# EAGLE library part XC3S50 (library STM32-PROX)
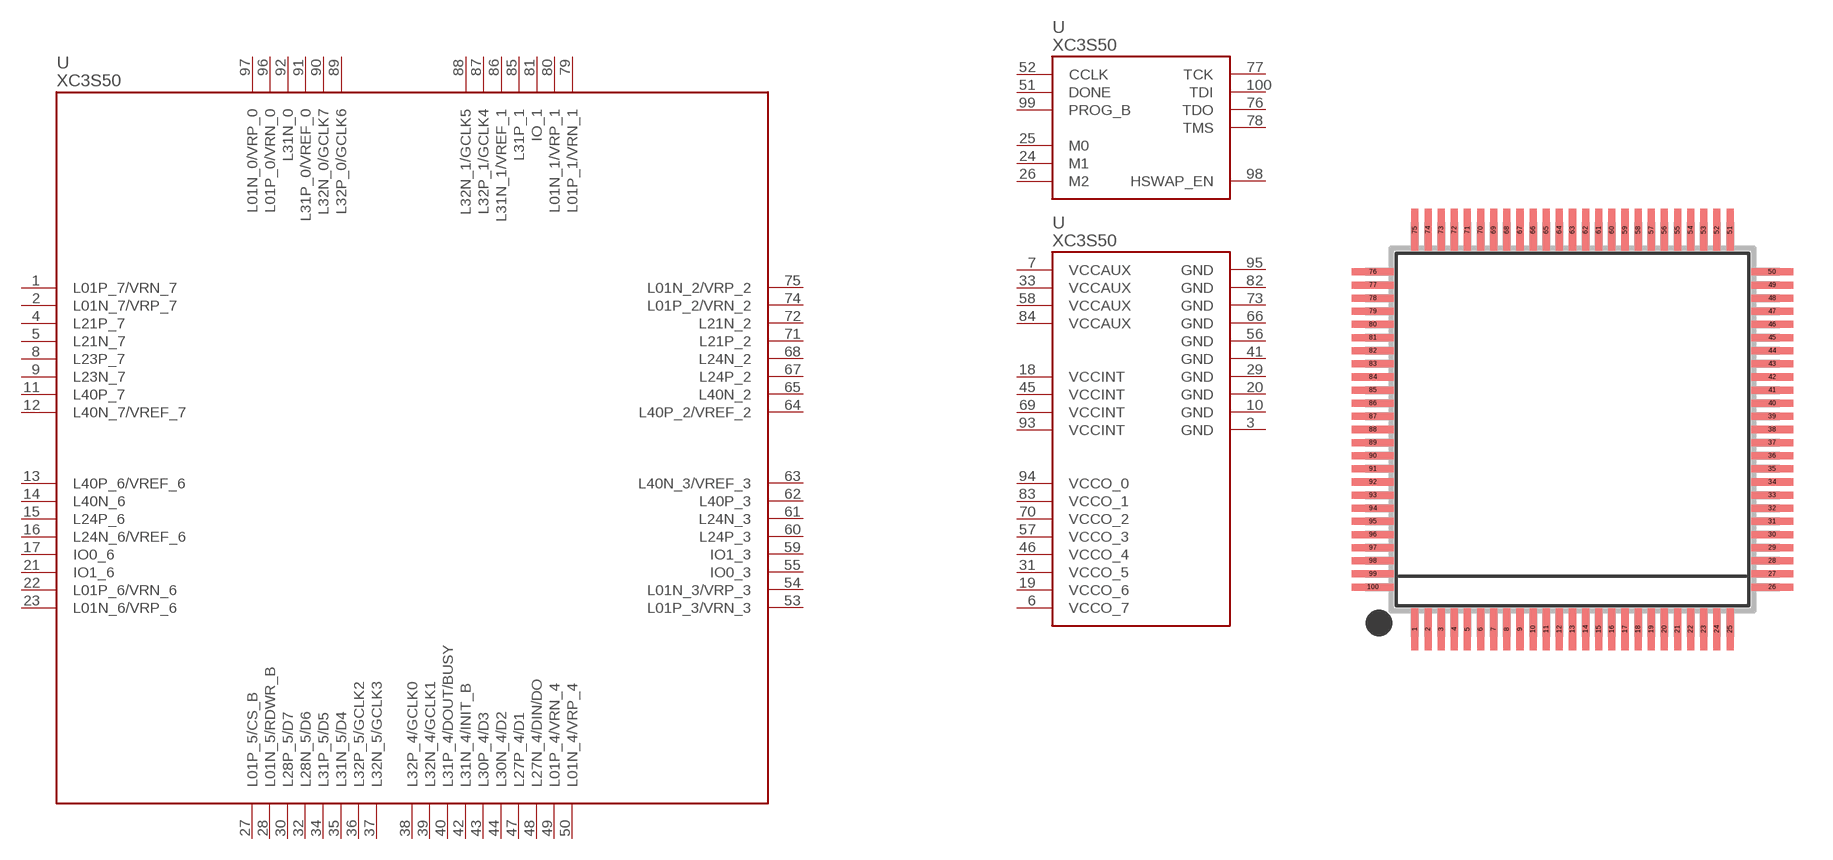
[diagram p14: symbol with the pads of VQ100; footprint VQ100]

Designator prefix U; gates G$1=XC3S50IO G$2=XC3S50CONF G$3=XC3S50PWR

## XC3S50  [VQ100]
1  G$1:L01P_7/VRN_7
2  G$1:L01N_7/VRP_7
3  G$3:GND  pwr
4  G$1:L21P_7
5  G$1:L21N_7
6  G$3:VCCO_7
7  G$3:VCCAUX  pwr
8  G$1:L23P_7
9  G$1:L23N_7
10  G$3:GND  pwr
11  G$1:L40P_7
12  G$1:L40N_7/VREF_7
13  G$1:L40P_6/VREF_6
14  G$1:L40N_6
15  G$1:L24P_6
16  G$1:L24N_6/VREF_6
17  G$1:IO0_6
18  G$3:VCCINT  pwr
19  G$3:VCCO_6
20  G$3:GND  pwr
21  G$1:IO1_6
22  G$1:L01P_6/VRN_6
23  G$1:L01N_6/VRP_6
24  G$2:M1
25  G$2:M0
26  G$2:M2
27  G$1:L01P_5/CS_B
28  G$1:L01N_5/RDWR_B
29  G$3:GND  pwr
30  G$1:L28P_5/D7
31  G$3:VCCO_5
32  G$1:L28N_5/D6
33  G$3:VCCAUX  pwr
34  G$1:L31P_5/D5
35  G$1:L31N_5/D4
36  G$1:L32P_5/GCLK2
37  G$1:L32N_5/GCLK3
38  G$1:L32P_4/GCLK0
39  G$1:L32N_4/GCLK1
40  G$1:L31P_4/DOUT/BUSY
41  G$3:GND  pwr
42  G$1:L31N_4/INIT_B
43  G$1:L30P_4/D3
44  G$1:L30N_4/D2
45  G$3:VCCINT  pwr
46  G$3:VCCO_4
47  G$1:L27P_4/D1
48  G$1:L27N_4/DIN/DO
49  G$1:L01P_4/VRN_4
50  G$1:L01N_4/VRP_4
51  G$2:DONE
52  G$2:CCLK
53  G$1:L01P_3/VRN_3
54  G$1:L01N_3/VRP_3
55  G$1:IO0_3
56  G$3:GND  pwr
57  G$3:VCCO_3
58  G$3:VCCAUX  pwr
59  G$1:IO1_3
60  G$1:L24P_3
61  G$1:L24N_3
62  G$1:L40P_3
63  G$1:L40N_3/VREF_3
64  G$1:L40P_2/VREF_2
65  G$1:L40N_2
66  G$3:GND  pwr
67  G$1:L24P_2
68  G$1:L24N_2
69  G$3:VCCINT  pwr
70  G$3:VCCO_2
71  G$1:L21P_2
72  G$1:L21N_2
73  G$3:GND  pwr
74  G$1:L01P_2/VRN_2
75  G$1:L01N_2/VRP_2
76  G$2:TDO
77  G$2:TCK
78  G$2:TMS
79  G$1:L01P_1/VRN_1
80  G$1:L01N_1/VRP_1
81  G$1:IO_1
82  G$3:GND  pwr
83  G$3:VCCO_1
84  G$3:VCCAUX  pwr
85  G$1:L31P_1
86  G$1:L31N_1/VREF_1
87  G$1:L32P_1/GCLK4
88  G$1:L32N_1/GCLK5
89  G$1:L32P_0/GCLK6
90  G$1:L32N_0/GCLK7
91  G$1:L31P_0/VREF_0
92  G$1:L31N_0
93  G$3:VCCINT  pwr
94  G$3:VCCO_0
95  G$3:GND  pwr
96  G$1:L01P_0/VRN_0
97  G$1:L01N_0/VRP_0
98  G$2:HSWAP_EN
99  G$2:PROG_B
100  G$2:TDI

## Footprint VQ100 (pad centres in mm)
Very Thin Quad Flat Pack
smd 0.27 x 1.6: 1 -6,-7.6; 2 -5.5,-7.6; 3 -5,-7.6; 4 -4.5,-7.6; 5 -4,-7.6; 6 -3.5,-7.6; 7 -3,-7.6; 8 -2.5,-7.6; 9 -2,-7.6; 10 -1.5,-7.6; 11 -1,-7.6; 12 -0.5,-7.6; 13 0,-7.6; 14 0.5,-7.6; 15 1,-7.6; 16 1.5,-7.6; 17 2,-7.6; 18 2.5,-7.6; 19 3,-7.6; 20 3.5,-7.6; 21 4,-7.6; 22 4.5,-7.6; 23 5,-7.6; 24 5.5,-7.6; 25 6,-7.6; 51 6,7.6; 52 5.5,7.6; 53 5,7.6; 54 4.5,7.6; 55 4,7.6; 56 3.5,7.6; 57 3,7.6; 58 2.5,7.6; 59 2,7.6; 60 1.5,7.6; 61 1,7.6; 62 0.5,7.6; 63 0,7.6; 64 -0.5,7.6; 65 -1,7.6; 66 -1.5,7.6; 67 -2,7.6; 68 -2.5,7.6; 69 -3,7.6; 70 -3.5,7.6; 71 -4,7.6; 72 -4.5,7.6; 73 -5,7.6; 74 -5.5,7.6; 75 -6,7.6
smd 1.6 x 0.27: 26 7.6,-6; 27 7.6,-5.5; 28 7.6,-5; 29 7.6,-4.5; 30 7.6,-4; 31 7.6,-3.5; 32 7.6,-3; 33 7.6,-2.5; 34 7.6,-2; 35 7.6,-1.5; 36 7.6,-1; 37 7.6,-0.5; 38 7.6,0; 39 7.6,0.5; 40 7.6,1; 41 7.6,1.5; 42 7.6,2; 43 7.6,2.5; 44 7.6,3; 45 7.6,3.5; 46 7.6,4; 47 7.6,4.5; 48 7.6,5; 49 7.6,5.5; 50 7.6,6; 76 -7.6,6; 77 -7.6,5.5; 78 -7.6,5; 79 -7.6,4.5; 80 -7.6,4; 81 -7.6,3.5; 82 -7.6,3; 83 -7.6,2.5; 84 -7.6,2; 85 -7.6,1.5; 86 -7.6,1; 87 -7.6,0.5; 88 -7.6,0; 89 -7.6,-0.5; 90 -7.6,-1; 91 -7.6,-1.5; 92 -7.6,-2; 93 -7.6,-2.5; 94 -7.6,-3; 95 -7.6,-3.5; 96 -7.6,-4; 97 -7.6,-4.5; 98 -7.6,-5; 99 -7.6,-5.5; 100 -7.6,-6